# EAGLE library part MOLEX_1MM_FPC (library thermo)
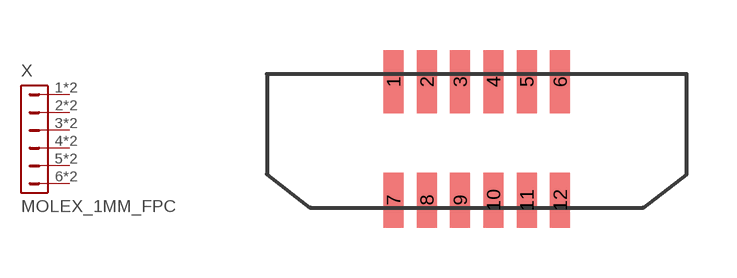
[diagram p9: symbol with the pads of 1MM_FPC_ZIF; footprint 1MM_FPC_ZIF]

Designator prefix X

## MOLEX_1MM_FPC  [1MM_FPC_ZIF]
1  1  pas
2  2  pas
3  3  pas
4  4  pas
5  5  pas
6  6  pas
7  1  pas
8  2  pas
9  3  pas
10  4  pas
11  5  pas
12  6  pas

## Footprint 1MM_FPC_ZIF (pad centres in mm)
smd 0.6 x 1.9: 1 -2.5,1.775; 2 -1.5,1.775; 3 -0.5,1.775; 4 0.5,1.775; 5 1.5,1.775; 6 2.5,1.775
smd 0.6 x 1.65: 7 -2.5,-1.775; 8 -1.5,-1.775; 9 -0.5,-1.775; 10 0.5,-1.775; 11 1.5,-1.775; 12 2.5,-1.775